# Altium footprint library PcbLib1.PcbLib: 7 footprints
Each footprint in its own frame and in the unit in brackets; x right, y up, seen from the top. Pads: shape width x height; smd on the part's side, far side on the other; paste and mask are expansions set on the pad; w line width, h text height; cw(c..) or ccw(c..) is an arc to the next point about the centre after c.
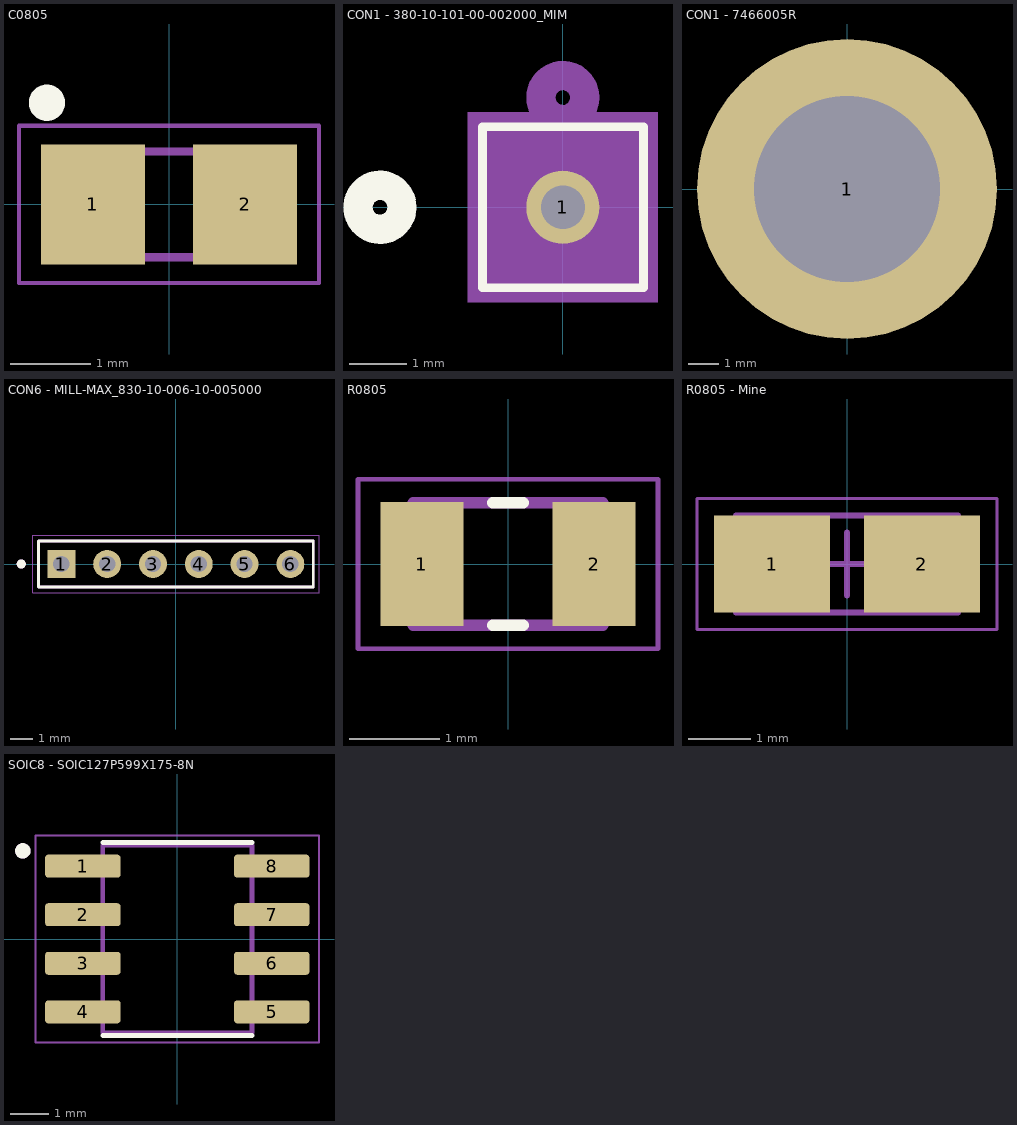
[diagram p0: the footprints below, top view; thin cyan lines are the x and y axes]

## C0805 [mm]
pads (2):
  rect 1.3x1.5 smd: 1(-0.95,0) 2(0.95,0)
Top Overlay:
  circle w0.254: c-1.524,1.27 r0.099
Mechanical 13:
  region: -0.342,-0.724 -1.093,-0.724 -1.093,0.726 -0.342,0.726
  region: 1.106,-0.725 0.356,-0.725 0.356,0.726 1.106,0.726
  lines w0.102: -0.381,0.66 0.381,0.66 ; -0.356,-0.66 0.381,-0.66
Mechanical 15:
  lines w0.051: -1.873,-0.983 1.873,-0.983 1.873,0.983 -1.873,0.983 -1.873,-0.983

## CON1 - 380-10-101-00-002000_MIM [mil]
pads (1):
  round 50 hole 30 mask+0: 1(0,0)
Top Overlay:
  circle w20: c-125,0 r15
  lines w6: -55,-55 -55,55 55,55 55,-55 -55,-55
Bottom Overlay:
  circle w20: c-125,0 r15
Mechanical 5:
  region: -65,65 65,65 65,-65 -65,-65
Mechanical 13:
  circle w20: c0,75 r15
  lines w1: -50,-50 -50,50 50,50 50,-50 -50,-50
Mechanical 15:
  region: 60,60 -60,60 -60,-60 60,-60
  lines w6: -60,-60 60,-60 60,60 -60,60 -60,-60
3D body: height 10, standoff 0, extent 0,0 10,10

## CON1 - 7466005R [mm]
pads (1):
  round 10 hole 6.2: 1(0,0)

## CON6 - MILL-MAX_830-10-006-10-005000 [mm]
pads (6):
  rect 1.218x1.218 hole 0.71: 1(-5,0)
  round 1.218 hole 0.71: 2(-3,0) 3(-1,0) 4(1,0) 5(3,0) 6(5,0)
Top Overlay:
  circle w0.2: c-6.75,0 r0.1
  lines w0.127: -6,-1 -6,1 6,1 6,-1 -6,-1
Mechanical 13:
  circle w0.2: c-6.75,0 r0.1
  lines w0.127: -6,-1 -6,1 6,1 6,-1 -6,-1
Mechanical 15:
  lines w0.05: -6.25,-1.25 -6.25,1.25 6.25,1.25 6.25,-1.25 -6.25,-1.25
3D body "step_temp.STEP": height 6.86, standoff -3.17, extent -6,-1 6,1

## R0805 [mm]
pads (2):
  rect 0.92x1.38 smd: 1(-0.955,0) 2(0.955,0)
Top Overlay:
  lines w0.127: -0.17,-0.68 0.17,-0.68 ; -0.17,0.68 0.17,0.68
Mechanical 13:
  lines w0.127: -1.05,-0.68 -1.05,0.68 1.05,0.68 1.05,-0.68 -1.05,-0.68
Mechanical 15:
  lines w0.05: -1.665,-0.94 -1.665,0.94 1.665,0.94 1.665,-0.94 -1.665,-0.94

## R0805 - Mine [mm] "Chip Resistor, 2-Leads, Body 3.30x1.30mm, IPC Medium Density"
height 0.6
pads (2):
  rect 1.85x1.55 smd: 1(-1.2,0) 2(1.2,0)
Mechanical 13:
  lines w0.1: -1.775,-0.775 1.775,-0.775 1.775,0.775 -1.775,0.775 -1.775,-0.775
Mechanical 15:
  lines w0.05: -2.4,-1.05 2.4,-1.05 2.4,1.05 -2.4,1.05 -2.4,-1.05
  lines w0.1: -0.5,0 0.5,0 ; 0,-0.5 0,0.5
3D body: height 0.6, standoff 0, extent 0.775,-0.775 1.775,0.775
3D body: height 0.6, standoff 0, extent -1.775,-0.775 -0.775,0.775
3D body: height 0.6, standoff 0, extent -0.775,-0.775 0.775,0.775

## SOIC8 - SOIC127P599X175-8N [mm]
pads (8):
  rrect25% 1.97x0.6 smd: 1(-2.47,1.905) 2(-2.47,0.635) 3(-2.47,-0.635) 4(-2.47,-1.905) 5(2.47,-1.905) 6(2.47,-0.635) 7(2.47,0.635) 8(2.47,1.905)
Top Overlay:
  circle w0.2: c-4.04,2.305 r0.1
  lines w0.127: -1.95,-2.525 1.95,-2.525 ; -1.95,2.525 1.95,2.525
Mechanical 13:
  circle w0.2: c-4.04,2.305 r0.1
  lines w0.127: -1.95,-2.452 -1.95,2.452 1.95,2.452 1.95,-2.452 -1.95,-2.452
Mechanical 15:
  lines w0.05: -3.705,-2.702 -3.705,2.702 3.705,2.702 3.705,-2.702 -3.705,-2.702
3D body "Generic SOIC-8_MNP.STEP": height 1.75, standoff 0, extent -2.997,-2.451 2.997,2.451